# Altium schematic symbol library common.SchLib: 2 symbols
Pins are listed as number, name and electrical type; pins without a type are passive.

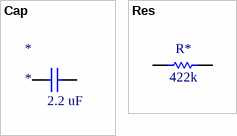
[diagram p0: symbols Cap to Res]

## Cap
designator *  value 2.2 uF
footprint Cap-0.2 (Ceramic Capacitor, 0.2in Spacing)
pins: 1, 2

## Res
designator R*  value 422k
footprint 2512
pins: 1, 2